# Altium footprint library aimtec.PcbLib: 1 footprints
Each footprint in its own frame and in the unit in brackets; x right, y up, seen from the top. Pads: shape width x height; smd on the part's side, far side on the other; paste and mask are expansions set on the pad; w line width, h text height; cw(c..) or ccw(c..) is an arc to the next point about the centre after c.
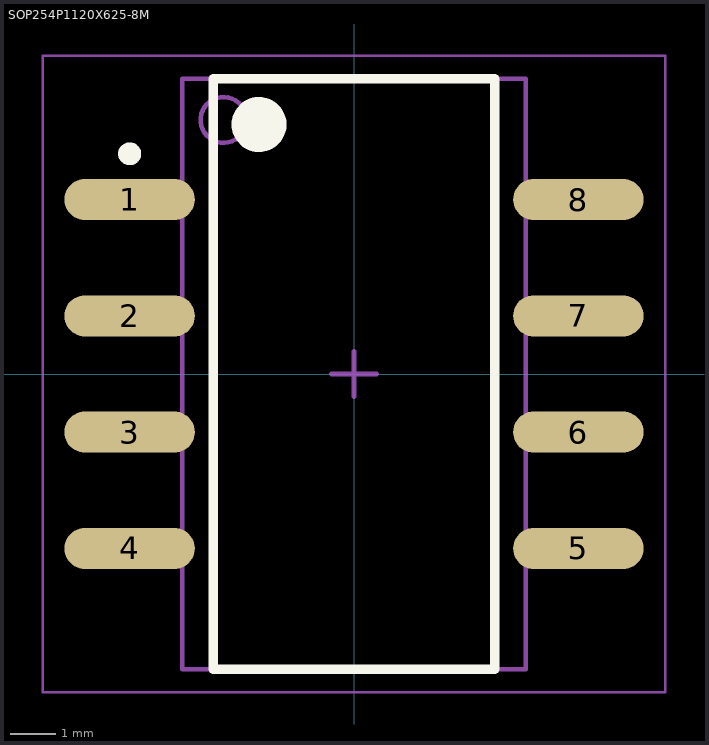
[diagram p0: the footprint, top view; thin cyan lines are the x and y axes]

## SOP254P1120X625-8M [mm] "SOP, 8-Leads, Body 12,70x7,25mm, Pitch 2,54mm, IPC Low Density"
height 6.25
pads (8):
  oval 2.85x0.9 smd: 1(-4.9,3.81) 2(-4.9,1.27) 3(-4.9,-1.27) 4(-4.9,-3.81) 5(4.9,-3.81) 6(4.9,-1.27) 7(4.9,1.27) 8(4.9,3.81)
Top Overlay:
  circle w0.25: c-4.9,4.81 r0.125
  circle w0.6: c-2.075,5.45 r0.3
  lines w0.2: -3.075,-6.45 -3.075,6.45 3.075,6.45 3.075,-6.45 -3.075,-6.45
Mechanical 13:
  circle w0.1: c-2.85,5.55 r0.5
  lines w0.1: -3.75,-6.45 -3.75,6.45 3.75,6.45 3.75,-6.45 -3.75,-6.45
Mechanical 15:
  lines w0.05: -6.8,-6.95 -6.8,6.95 6.8,6.95 6.8,-6.95 -6.8,-6.95
  lines w0.1: -0.5,0 0.5,0 ; 0,-0.5 0,0.5
3D body: height 6.25, standoff 0.25, extent -3.75,-6.45 3.75,6.45